# Altium footprint library ControlBoard.PcbLib: 20 footprints (part 2 of 2)
Each footprint in its own frame and in the unit in brackets; x right, y up, seen from the top. Pads: shape width x height; smd on the part's side, far side on the other; paste and mask are expansions set on the pad; w line width, h text height; cw(c..) or ccw(c..) is an arc to the next point about the centre after c.
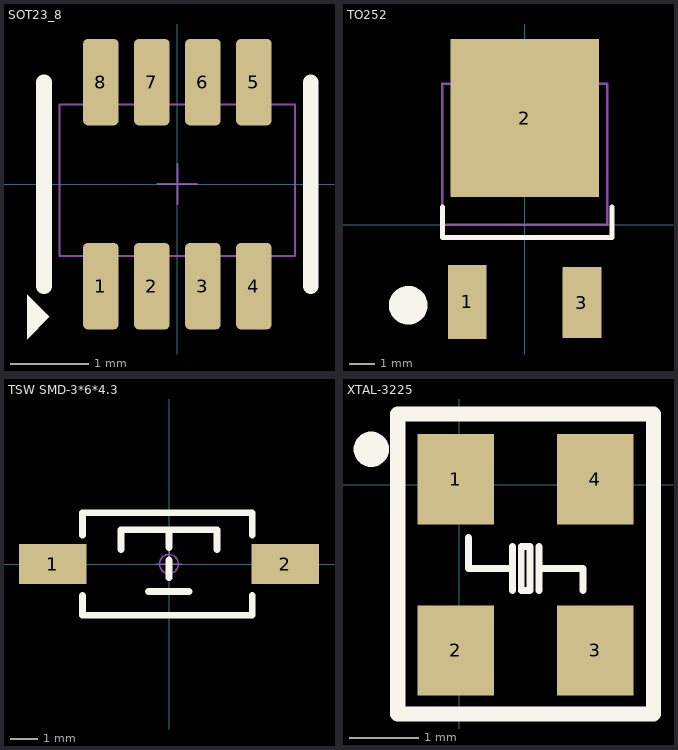
[diagram p1: the footprints below, top view; thin cyan lines are the x and y axes]

## SOT23_8 [mm] "SOT23_8"
pads (8):
  rrect25% 0.45x1.1 smd mask+0.05: 1(-0.975,-1.3) 2(-0.325,-1.3) 3(0.325,-1.3) 4(0.975,-1.3) 5(0.975,1.3) 6(0.325,1.3) 7(-0.325,1.3) 8(-0.975,1.3)
Top Overlay:
  region: -1.912,-1.973 -1.912,-1.407 -1.629,-1.69
  lines w0.2: -1.7,-1.3 -1.7,1.3 ; 1.7,-1.3 1.7,1.3
Mechanical 29:
  lines w0.025: -1.499,-0.915 1.5,-0.915 1.5,1.015 -1.499,1.015 -1.499,-0.915
Mechanical81:
  lines w0.025: -0.254,0 0.254,0 ; 0,-0.254 0,0.254
3D body: height 1.2, standoff 0, extent -1.47,-1.4 1.47,1.4

## TO252 [mil] "252晶体管"
pads (3):
  rect 60x115 smd: 1(-89.55,-119.77)
  rect 230x245 smd: 2(0,165.35)
  rect 60x110 smd: 3(88.45,-120.77)
Top Overlay:
  circle w30: c-180.86,-125 r15
  lines w7.87: -127.95,27.56 -127.95,-20 135,-20 135,27.56
Mechanical 15:
  lines w3.94: -105.04,218.5 -105.04,236.06 -65.59,271.65 65.59,271.65 105.04,236.06 105.04,218.5 ; -127.95,0 -127.95,218.5 127.95,218.5 127.95,0 -127.95,0
3D body "TO-252AA.step": height 93.31, standoff -1.18, extent -132.56,-145.08 132.56,252.56

## TSW SMD-3*6*4.3 [mm] "3*6*4.3mm"
pads (2):
  rect 2.5x1.5 smd: 1(-4.318,0) 2(4.318,0)
Top Overlay:
  lines w0.254: -3.212,-1.168 -3.212,-1.9 3.088,-1.9 3.088,-1.168 ; -3.212,1.067 -3.212,1.9 3.088,1.9 3.088,1.067 ; -1.778,0.533 -1.778,1.27 1.778,1.27 1.778,0.533 ; -0.762,-1.016 0.737,-1.016 ; 0,-0.508 0,0.152 ; 0,0.61 0,1.27
Mechanical 15:
  circle w0.05: c0,0 r0.35
  lines w0.05: -0.5,0 0.5,0 ; 0,-0.5 0,0.5
3D body "DTSMF-32.STEP": height 5.01, standoff -0.04, extent -5.127,-1.75 4.873,1.75

## XTAL-3225 [mm]
pads (4):
  rect 1.1x1.3 smd: 1(-0.051,0.076) 2(-0.051,-2.388) 3(1.956,-2.388) 4(1.956,0.076)
Top Overlay:
  circle w0.254: c-1.27,0.508 r0.127
  lines w0.1: 0.127,-0.762 0.127,-1.206 0.762,-1.206 ; 0.762,-1.524 0.762,-0.889 ; 1.143,-1.524 1.143,-0.889 ; 1.143,-1.206 1.778,-1.206 1.778,-1.524 ; 0.889,-1.524 1.016,-1.524 1.016,-0.889 0.889,-0.889 0.889,-1.524
  lines w0.22: -0.889,-3.302 -0.889,1.016 2.794,1.016 2.794,-3.302 -0.889,-3.302
3D body: height 0.8, standoff 0, extent -0.336,-2.743 2.164,0.457